# EAGLE library part WM_JDY-10 (library parts_v25)
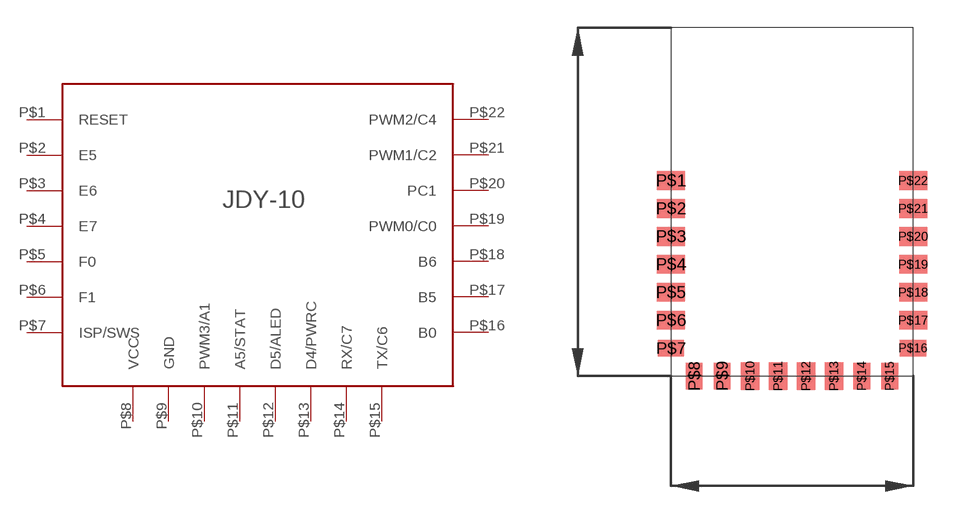
[diagram p8: symbol with the pads of JDY-10; footprint JDY-10]

Designator prefix -

## WM_JDY-10  [JDY-10]
P$1  RESET
P$2  E5
P$3  E6
P$4  E7
P$5  F0
P$6  F1
P$7  ISP/SWS
P$8  VCC
P$9  GND
P$10  PWM3/A1
P$11  A5/STAT
P$12  D5/ALED
P$13  D4/PWRC
P$14  RX/C7
P$15  TX/C6
P$16  B0
P$17  B5
P$18  B6
P$19  PWM0/C0
P$20  PC1
P$21  PWM1/C2
P$22  PWM2/C4

## Footprint JDY-10 (pad centres in mm)
smd 1.5 x 1: P$1 0,10.5; P$2 0,9; P$3 0,7.5; P$4 0,6; P$5 0,4.5; P$6 0,3; P$17 13,3; P$18 13,4.5; P$19 13,6; P$20 13,7.5; P$21 13,9; P$22 13,10.5
smd 1.4 x 0.9: P$7 0,1.5; P$16 13,1.5
smd 0.9 x 1.4: P$8 1.25,0; P$9 2.75,0; P$14 10.25,0; P$15 11.75,0
smd 1 x 1.5: P$10 4.25,0; P$11 5.75,0; P$12 7.25,0; P$13 8.75,0